# Altium schematic symbol library LocalLib.SchLib: 47 symbols
Pins are listed as number, name and electrical type; pins without a type are passive.

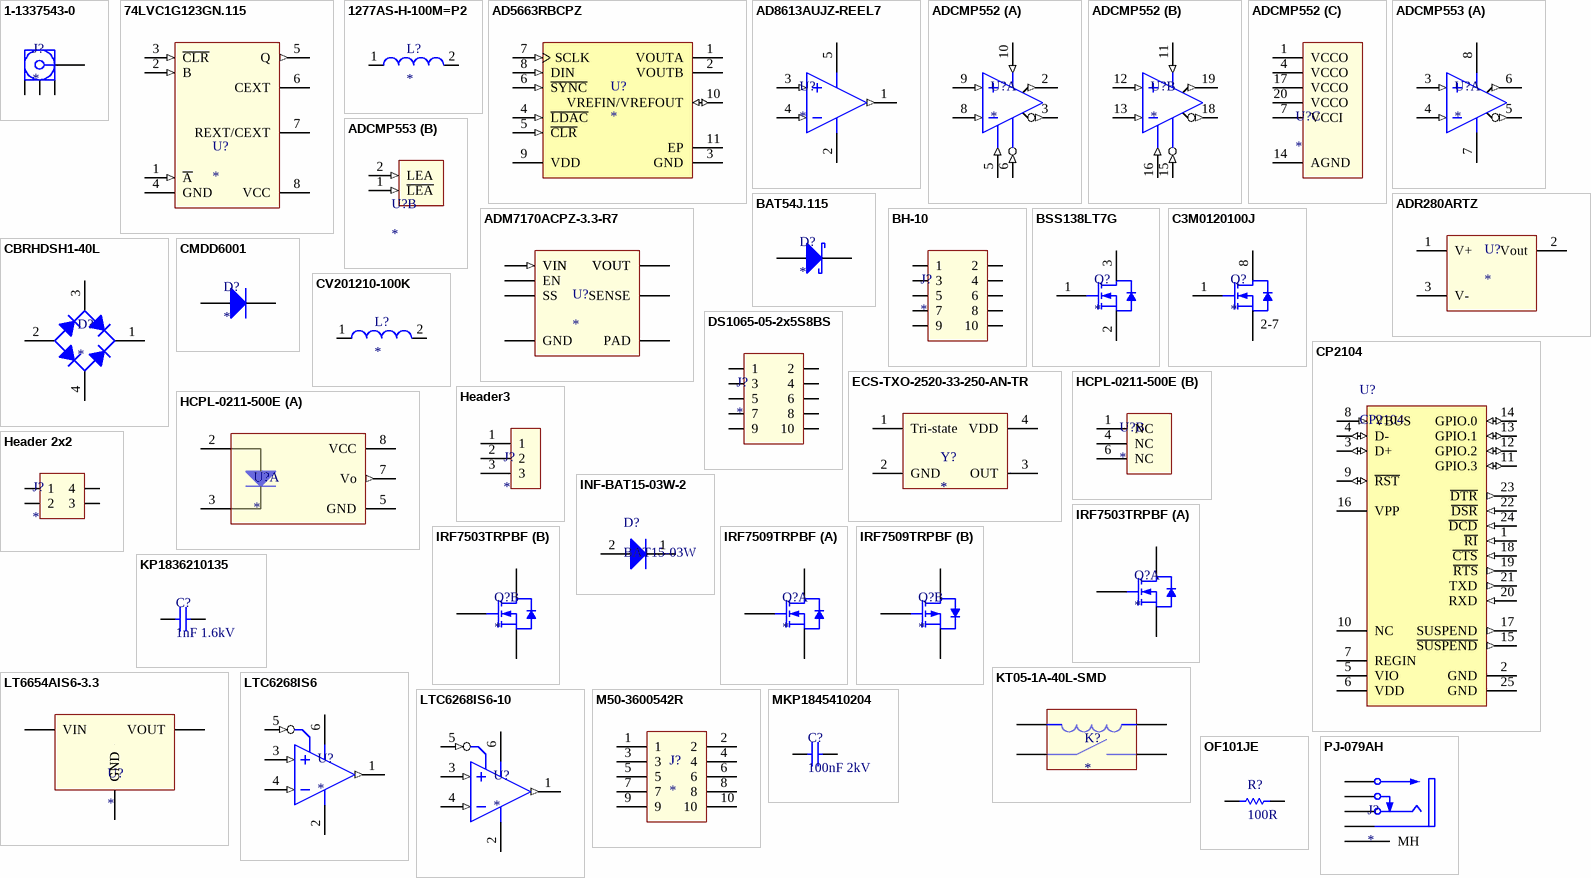
[diagram p0: symbols 1-1337543-0 to PJ-079AH]

## 1-1337543-0
designator J?
RF Connectors / Coaxial Connectors R/A PCB Skt White 50Ohm
footprint 1-1337543-0
pins: 1, 2, 3, 4

## 74LVC1G123GN.115
designator U?
Single retriggerable monostable multivibrator
footprint SOT1116 (QFN, 8-Leads, Body 1,00x1,20mm, Pitch 0,55mm/0,30mm, IPC High Density)
pins: 1 ~{A} (in), 2 B (in), 3 ~{CLR} (in), 4 GND, 5 Q (out), 6 CEXT, 7 REXT/CEXT, 8 VCC

## 1277AS-H-100M=P2
designator L?
Fixed Inductors 10uH 420mOhms 1.2A +/-20%
footprint L1210H1.2 (Chip Inductor, 2-Leads, Body 3,00x2,50mm, IPC Medium Density)
pins: 1, 2

## AD5663RBCPZ
designator U?
Dual 12-/14-/16-Bit nanoDAC with / 5 ppm/°C On-Chip Reference
footprint LFCSP-10 (QFN, 10-Leads, Body 3,00x3,00mm, Pitch 0,50mm, Thermal Pad 1,62x2,31mm, IPC High Density)
pins: 1 VOUTA (hiz) "Analog Output Voltage from DAC A. The output amplifier has rail-to-rail operation.", 2 VOUTB (hiz) "Analog Output Voltage from DAC B. The output amplifier has rail-to-rail operation.", 3 GND (power) "Ground. Reference point for all circuitry on the part.", 4 ~{LDAC} (in) "Pulsing this pin low allows any or all DAC registers to be updated if the input registers have new data. This allows simultaneous update of all DAC outputs. Alternatively, this pin can be tied permanently low.", 5 ~{CLR} (in) "Asynchronous Clear Input. The C\L\R input is falling edge sensitive. While C\L\R\ is low, all L\D\A\C\ pulses are ignored. When C\L\R\ is activated, zero scale is loaded to all input and DAC registers. This clears the output (See Datasheet)", 6 ~{SYNC} (in) "Level-Triggered Control Input (Active Low). This is the frame synchronization signal for the input data. When S\Y\N\C\ goes low, it enables the input shift register, and data is transferred in on the falling edges of the (See Datasheet)", 7 SCLK (in) "Serial Clock Input. Data is clocked into the input shift register on the falling edge of the serial clock input. Data can be transferred at rates up to 50 MHz.", 8 DIN (in) "Serial Data Input. This device has a 24-bit shift register. Data is clocked into the register on the falling edge of the serial clock input.", 9 VDD (power) "Power Supply Input. These parts can be operated from 2.7 V to 5.5 V, and the supply should be decoupled with a 10 uF capacitor in parallel with a 0.1 uF capacitor to GND.", 10 VREFIN/VREFOUT (io) "Common Reference Input/Reference Output. When the internal reference is selected, this is the reference output pin. When using an external reference, this is the reference input pin. The default for this pin is a reference (See Datasheet)", 11 EP (power) "Exposed pad tied to GND."

## AD8613AUJZ-REEL7
designator U?
Low Cost Micropower, Low Noise CMOS / Rail-to-Rail, Input/Output Operational Amplifiers
footprint TSOT-23-5 (SOT23, 5-Leads, Body 2,00x2,10mm, Pitch 0,65mm, IPC Medium Density)
pins: 1 (out), 2, 3 (in), 4 (in), 5

## ADCMP552
designator U?
Single-Supply, High Speed / PECL/LVPECL Comparator
footprint QSOP-20 (SOP, 20-Leads, Body 8,66x3,91mm, Pitch 0,64mm, IPC Medium Density)
part A pins: 2 QA (out), 3 ~{QA} (out), 5 LEA (in), 6 ~{LEA} (in), 8 -INA (in), 9 +INA (in), 10 HYSA (in)
part B pins: 11 HYSB (in), 12 +INB (in), 13 -INB (in), 15 ~{LEB} (in), 16 LEB (in), 18 ~{QB} (out), 19 QB (out)
part C pins: 1 VCCO, 4 VCCO, 7 VCCI, 14 AGND, 17 VCCO, 20 VCCO

## ADCMP553
designator U?
Single-Supply, High Speed / PECL/LVPECL Comparator
footprint MSOP-8 (TSOP, 8-Leads, Body 2,90x2,90mm, Pitch 0,65mm, IPC Medium Density)
part A pins: 3 INA+ (in), 4 INA- (in), 5 ~{QA} (out), 6 QA (out), 7 VCC (power), 8 AGND (power)
part B pins: 1 ~{LEA} (in), 2 LEA (in)

## ADM7170ACPZ-3.3-R7
designator U?
ADM7170ACPZ-3.3-R7
footprint LFCSP8 (SON, 8-Leads, Body 3,00x3,00mm, Pitch 0,50mm, Thermal Pad 2,44x1,49mm, IPC Medium Density)
pins: 1 VOUT, 2 VOUT, 3 SENSE, 4 SS, 5 EN, 6 GND, 7 VIN (in), 8 VIN (in), 9 PAD

## ADR280ARTZ
designator U?
1.2 V Ultralow Power High PSRR Voltage Reference
footprint SOT-23-3 (SOT23, 3-Leads, Body 2,92x2,37mm, Pitch 0,95mm, IPC Medium Density)
pins: 1 V+, 2 Vout, 3 V-

## BAT54J.115
designator D?
footprint SOD-323
pins: 1 K, 2 A

## BH-10
designator J?
footprint IDC-10-2.54
pins: 1, 2, 3, 4, 5, 6, 7, 8, 9, 10

## BSS138LT7G
designator Q?
Power MOSFET / 200 mA, 50 V
footprint SOT-23-3 (SOT23, 3-Leads, Body 2,92x2,37mm, Pitch 0,95mm, IPC Medium Density)
pins: 1 G, 2 G, 3 G

## C3M0120100J
designator Q?
Silicon Carbide Power MOSFET
footprint D2PAK-7L (TO, 8-Pads, Body 7,66x8,48mm (max), IPC Medium Density)
pins: 1 G, 2 S, 3 S, 4 S, 5 S, 6 S, 7 S, 8 D
text: 2-7

## CBRHDSH1-40L
designator D?
The CENTRAL SEMICONDUCTOR CBRHDSH1-40L / is a full wave bridge rectifier mounted in a durable / epoxy surface mount molded case, utilizing glass / passivated chips.
footprint HDDIP
pins: 1 K, 2 A, 3 C, 4 C

## CMDD6001
designator D?
TVS
footprint SOD-323
pins: 1 K, 2 A

## CP2104
designator U?
footprint QFN-24 (PQFN, 24-Leads, Body 4,00x4,00mm, Pitch 0,50mm, Thermal Pad 2,68x2,68mm, IPC Medium Density)
pins: 1 ~{RI} (in) "Ring Indicator control input (active low)", 2 GND (power) "Ground. Must be tied to ground.", 3 D+ (io) "USB D+", 4 D- (io) "USB D-", 5 VIO (power) "I/O Supply Voltage Input.", 6 VDD (power) "Power Supply Voltage Input. Voltage Regulator Output. See Section 9.", 7 REGIN (power) "5 V Regulator Input. This pin is the input to the on-chip voltage regulator.", 8 VBUS (in) "VBUS Sense Input. This pin should be connected to the VBUS signal of a USB network.", 9 ~{RST} (io) "Device Reset. Open-drain output of internal POR or VDD monitor. An external source can initiate a system reset by driving this pin low for the time specified in Table 4.", 10 NC "This pin should be left unconnected or tied to VIO.", 11 GPIO.3 (io) "User-configurable input or output.", 12 GPIO.2 (io) "User-configurable input or output.", 13 GPIO.1 (io) "User-configurable input or output.", 14 GPIO.0 (io) "User-configurable input or output.", 15 ~{SUSPEND} (out) "This pin is logic low when the CP2104 is in the USB Suspend state.", 16 VPP "Connect a 4.7 uF capacitor between this pin and ground to support ROM programming via USB interface.", 17 SUSPEND (out) "This pin is logic high when the CP2104 is in the USB Suspend state.", 18 ~{CTS} (in) "Clear to Send control input (active low)", 19 ~{RTS} (out) "Ready to Send control output (active low)", 20 RXD (in) "Asynchronous data input (UART Receive)", 21 TXD (out) "Asynchronous data output (UART Transmit)", 22 ~{DSR} (in) "Data Set Ready control input (active low)", 23 ~{DTR} (out) "Data Terminal Ready control output (active low)", 24 ~{DCD} (in) "Data Carrier Detect control input (active low)", 25 GND (power)

## CV201210-100K
designator L?
CV201210-100K
footprint L0805H1.45 (Chip Inductor, 2-Leads, Body 2,00x1,25mm, IPC Medium Density)
pins: 1, 2

## DS1065-05-2x5S8BS
designator J?
footprint DS1065-05-2x5S8BS
pins: 1, 2, 3, 4, 5, 6, 7, 8, 9, 10

## ECS-TXO-2520-33-250-AN-TR
designator Y?
footprint XTAL_ECS-TXO-2520-33-250
pins: 1 Tri-state, 2 GND, 3 OUT, 4 VDD

## HCPL-0211-500E
designator U?
footprint DIP-8_GW (SOP, 8-Leads, Body 9,65x6,64mm, Pitch 2,54mm, IPC Medium Density)
part A pins: 2 ANODE, 3 CATHODE, 5 GND, 7 Vo (out), 8 VCC
part B pins: 1 NC, 4 NC, 6 NC

## Header3
designator J?
footprint Header3
pins: 1, 2, 3

## Header 2x2
designator J?
footprint HEADER2x2
pins: 1, 2, 3, 4

## INF-BAT15-03W-2
designator D?, comment BAT15-03W
BAT1503WE6327HTSA1
footprint SOD-323
pins: 1 K, 2 A

## IRF7503TRPBF
designator Q?
footprint Micro8 (TSOP, 8-Leads, Body 3,00x3,00mm, Pitch 0,65mm, IPC Medium Density)
part A pins: 1, 2, 7, 8
part B pins: 3, 4, 5, 6

## IRF7509TRPBF
designator Q?
footprint Micro8 (TSOP, 8-Leads, Body 3,00x3,00mm, Pitch 0,65mm, IPC Medium Density)
part A pins: 1, 2, 7, 8
part B pins: 3, 4, 5, 6

## KP1836210135
designator C?, comment 1nF 1.6kV
AC and Pulse Film/Foil Capacitors / Radial Potted Type
footprint KP1836210135
pins: 1, 2

## KT05-1A-40L-SMD
designator K?
footprint KT05-1A-40L-SMD
pins: 1, 2, 3, 4

## LT6654AIS6-3.3
designator U?
Precision Wide Supply High Output Drive Low Noise Reference
footprint SOT-23-6 (SOT23, 6-Leads, Body 2,90x2,80mm, Pitch 0,95mm, IPC Medium Density)
pins: 1 GND, 2 GND, 3 DNC, 4 VIN, 5 DNC, 6 VOUT

## LTC6268IS6
designator U?
500MHz Ultra-Low Bias / Current FET Input Op Amp
footprint SOT-23-6 (SOT23, 6-Leads, Body 2,90x2,80mm, Pitch 0,95mm, IPC Medium Density)
pins: 1 OUT (out), 2 V-, 3 IN+ (in), 4 IN- (in), 5 ~{SHDN} (in), 6 V+

## LTC6268IS6-10
designator U?
4GHz Ultra-Low Bias / Current FET Input Op Amp
footprint SOT-23-6 (SOT23, 6-Leads, Body 2,90x2,80mm, Pitch 0,95mm, IPC Medium Density)
pins: 1 OUT (out), 2 V-, 3 IN+ (in), 4 IN- (in), 5 ~{SHDN} (in), 6 V+

## M50-3600542R
designator J?
footprint M50-3600542R
pins: 1, 2, 3, 4, 5, 6, 7, 8, 9, 10

## MKP1845410204
designator C?, comment 100nF 2kV
Film Capacitors .1uF 2000volt 5%
footprint MKP1845D21L44
pins: 1, 2

## OF101JE
designator R?, comment 100R
footprint OF101JE
pins: 1, 2

## PJ-079AH
designator J?
DC POWER JACK
footprint PJ-079AH
pins: 1, 2, 3, 6 MH, SH1, SH2

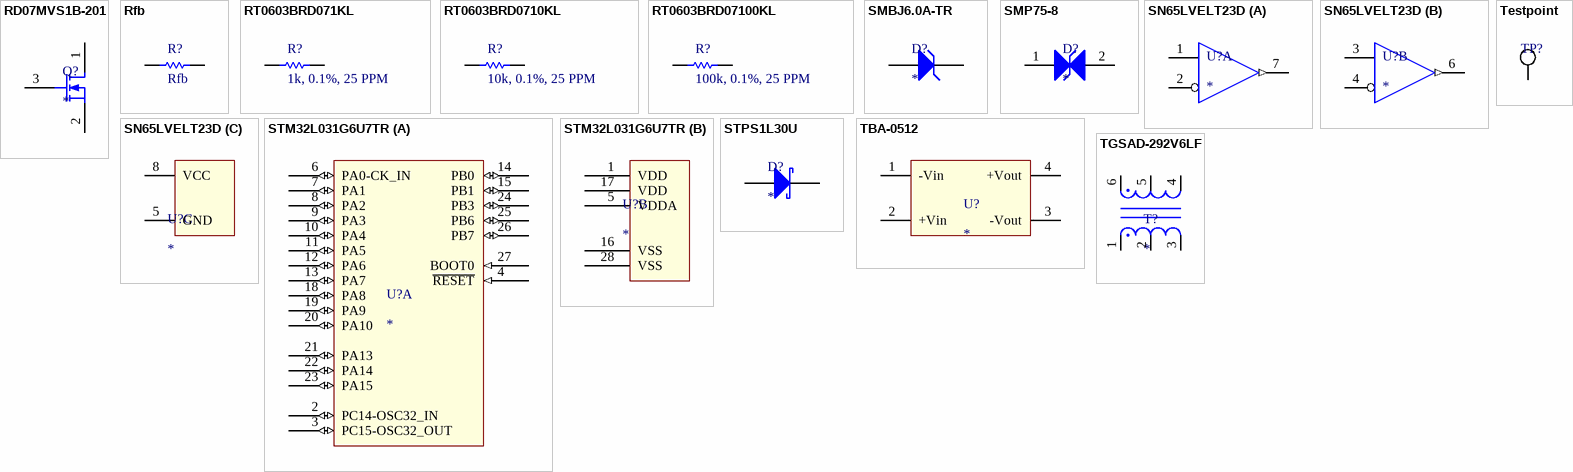
[diagram p1: symbols RD07MVS1B-201 to TGSAD-292V6LF]

## RD07MVS1B-201
designator Q?
RoHS Compliant product, Silicon MOSFET Power Transistor,175MHz,520MHz,7W
footprint RD07MVS1B (SLP Package)
pins: 1 D "mounting base; connected to drain", 2 S "source", 3 G "gate"

## Rfb
designator R?
Rfb template
footprint RT0603 (Chip Resistor, 2-Leads, Body 1,60x0,80mm, IPC Medium Density)
pins: 1, 2

## RT0603BRD071KL
designator R?, comment 1k, 0.1%, 25 PPM
RT0603BRD071KL
footprint RT0603 (Chip Resistor, 2-Leads, Body 1,60x0,80mm, IPC Medium Density)
pins: 1, 2

## RT0603BRD0710KL
designator R?, comment 10k, 0.1%, 25 PPM
RT0603BRD0710KL
footprint RT0603 (Chip Resistor, 2-Leads, Body 1,60x0,80mm, IPC Medium Density)
pins: 1, 2

## RT0603BRD07100KL
designator R?, comment 100k, 0.1%, 25 PPM
RT0603BRD07100KL
footprint RT0603 (Chip Resistor, 2-Leads, Body 1,60x0,80mm, IPC Medium Density)
pins: 1, 2

## SMBJ6.0A-TR
designator D?
footprint DO-214AA (Molded Diode, 2-Leads, Body 5,35x3,63mm, IPC Medium Density)
pins: 1 K, 2 A

## SMP75-8
designator D?
Trisil™ for telecom equipment protection
footprint DO-214AA (Molded Diode, 2-Leads, Body 5,35x3,63mm, IPC Medium Density)
pins: 1 C, 2 C

## SN65LVELT23D
designator U?
3.3-V Dual Differential LVPECL/LVDS Buffer to LVTTL Translator
footprint SOIC-8 (SOIC, 8-Leads, Body 4,91x3,90mm, Pitch 1,27mm, IPC Medium Density)
part A pins: 1 D0, 2 ~{D0}, 7 Q0 (out)
part B pins: 3 D1, 4 ~{D1}, 6 Q1 (out)
part C pins: 5 GND, 8 VCC

## STM32L031G6U7TR
designator U?
footprint UFQFPN28 (QFN, 28-Leads, Body 4,00x4,00mm, Pitch 0,50mm, IPC High Density)
part A pins: 2 PC14-OSC32_IN (io), 3 PC15-OSC32_OUT (io), 4 ~{RESET} (in), 6 PA0-CK_IN (io), 7 PA1 (io), 8 PA2 (io), 9 PA3 (io), 10 PA4 (io), 11 PA5 (io), 12 PA6 (io), 13 PA7 (io), 14 PB0 (io), 15 PB1 (io), 18 PA8 (io), 19 PA9 (io), 20 PA10 (io), 21 PA13 (io), 22 PA14 (io), 23 PA15 (io), 24 PB3 (io), 25 PB6 (io), 26 PB7 (io), 27 BOOT0 (in)
part B pins: 1 VDD, 5 VDDA, 16 VSS, 17 VDD, 28 VSS

## STPS1L30U
designator D?
footprint DO-214AA (Molded Diode, 2-Leads, Body 5,35x3,63mm, IPC Medium Density)
pins: 1 K, 2 A

## TBA-0512
designator U?
footprint TBA-0512
pins: 1 -Vin, 2 +Vin, 3 -Vout, 4 +Vout

## Testpoint
designator TP?  (value not drawn)
footprint TESTPOINT
pins: 1

## TGSAD-292V6LF
designator T?
1:5
footprint TGSAD-V6LF
pins: 1, 2, 3, 4, 5, 6